# EAGLE library part 48CKTRASCMCHEADER (library GTOR - Connectors)
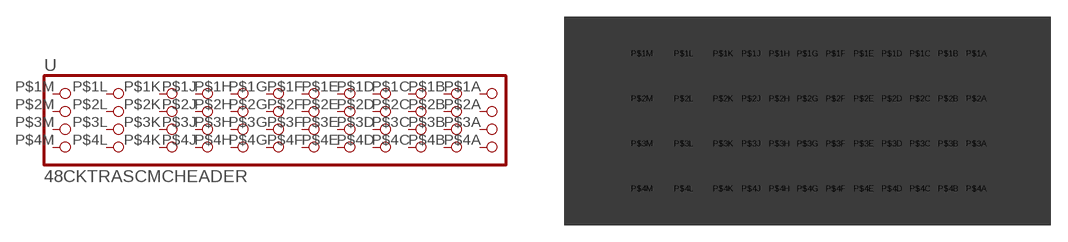
[diagram p20: symbol with the pads of 48CKTRASCMCHEADER; footprint 48CKTRASCMCHEADER]

Designator prefix -

## 48CKTRASCMCHEADER  [48CKTRASCMCHEADER]
P$1A  1A  pas
P$1B  1B  pas
P$1C  1C  pas
P$1D  1D  pas
P$1E  1E  pas
P$1F  1F  pas
P$1G  1G  pas
P$1H  1H  pas
P$1J  1J  pas
P$1K  1K  pas
P$1L  1L  pas
P$1M  1M  pas
P$2A  2A  pas
P$2B  2B  pas
P$2C  2C  pas
P$2D  2D  pas
P$2E  2E  pas
P$2F  2F  pas
P$2G  2G  pas
P$2H  2H  pas
P$2J  2J  pas
P$2K  2K  pas
P$2L  2L  pas
P$2M  2M  pas
P$3A  3A  pas
P$3B  3B  pas
P$3C  3C  pas
P$3D  3D  pas
P$3E  3E  pas
P$3F  3F  pas
P$3G  3G  pas
P$3H  3H  pas
P$3J  3J  pas
P$3K  3K  pas
P$3L  3L  pas
P$3M  3M  pas
P$4A  4A  pas
P$4B  4B  pas
P$4C  4C  pas
P$4D  4D  pas
P$4E  4E  pas
P$4F  4F  pas
P$4G  4G  pas
P$4H  4H  pas
P$4J  4J  pas
P$4K  4K  pas
P$4L  4L  pas
P$4M  4M  pas

## Footprint 48CKTRASCMCHEADER (pad centres in mm)
drill 1.1: P$1A 15,6; P$1B 12.5,6; P$1C 10,6; P$1D 7.5,6; P$1E 5,6; P$1F 2.5,6; P$1G 0,6; P$1H -2.5,6; P$1J -5,6; P$1K -7.5,6; P$1L -11,6; P$1M -14.7,6; P$2A 15,2; P$2B 12.5,2; P$2C 10,2; P$2D 7.5,2; P$2E 5,2; P$2F 2.5,2; P$2G 0,2; P$2H -2.5,2; P$2J -5,2; P$2K -7.5,2; P$2L -11,2; P$2M -14.7,2; P$3A 15,-2; P$3B 12.5,-2; P$3C 10,-2; P$3D 7.5,-2; P$3E 5,-2; P$3F 2.5,-2; P$3G 0,-2; P$3H -2.5,-2; P$3J -5,-2; P$3K -7.5,-2; P$3L -11,-2; P$3M -14.7,-2; P$4A 15,-6; P$4B 12.5,-6; P$4C 10,-6; P$4D 7.5,-6; P$4E 5,-6; P$4F 2.5,-6; P$4G 0,-6; P$4H -2.5,-6; P$4J -5,-6; P$4K -7.5,-6; P$4L -11,-6; P$4M -14.7,-6
hole 2.7 at -18.9,3
hole 2.7 at 19.2,3